# Altium footprint library Aeroval.PcbLib: 39 footprints (part 3 of 3)
Each footprint in its own frame and in the unit in brackets; x right, y up, seen from the top. Pads: shape width x height; smd on the part's side, far side on the other; paste and mask are expansions set on the pad; w line width, h text height; cw(c..) or ccw(c..) is an arc to the next point about the centre after c.
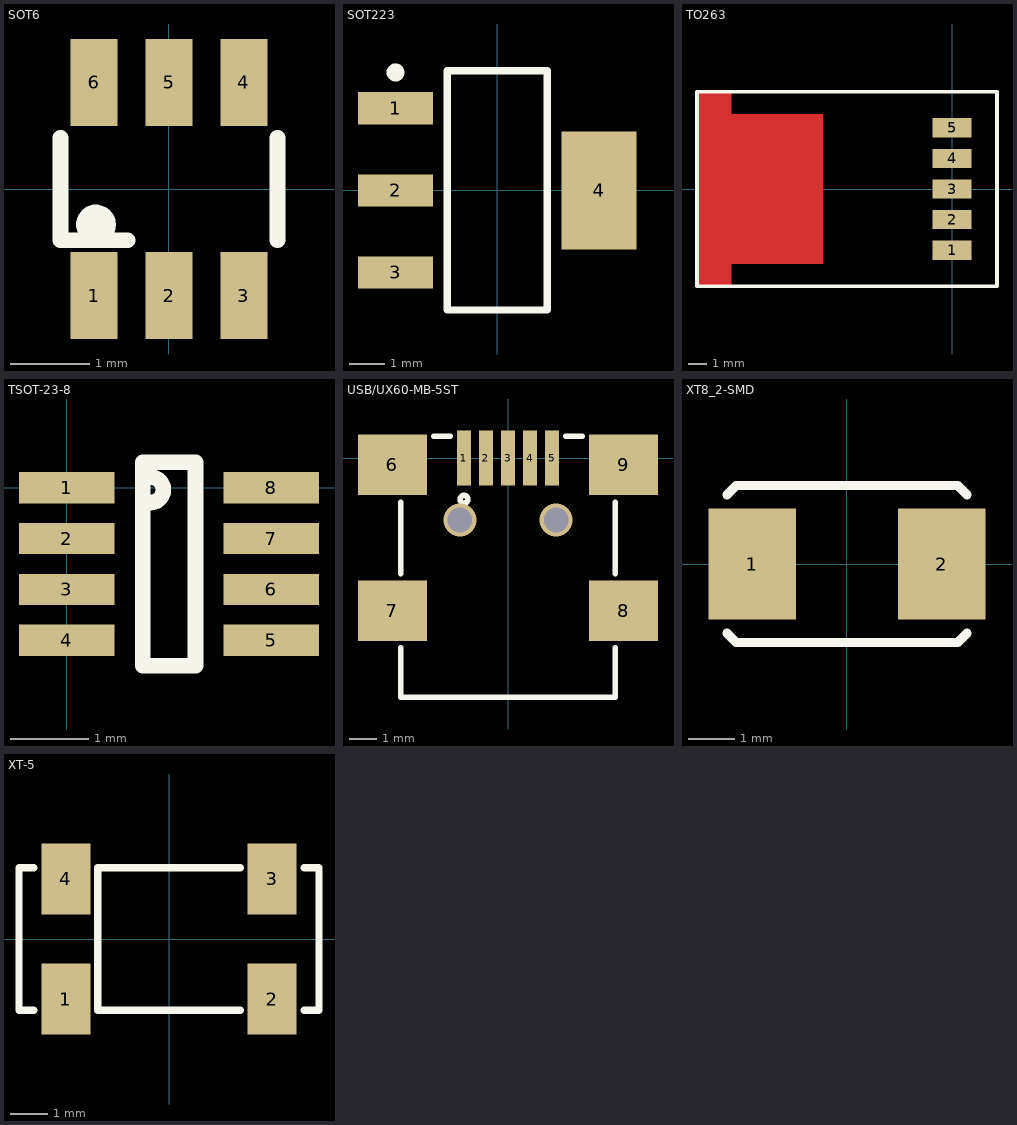
[diagram p2: the footprints below, top view; thin cyan lines are the x and y axes]

## SOT6 [mm]
pads (6):
  rect 0.6x1.1 smd: 1(-0.95,-1.35) 2(0,-1.35) 3(0.95,-1.35) 4(0.95,1.35) 5(0,1.35) 6(-0.95,1.35)
Top Overlay:
  circle w0.254: c-0.925,-0.45 r0.125
  lines w0.2: -1.375,0.65 -1.375,-0.65 -0.525,-0.65 ; 1.375,-0.65 1.375,0.65

## SOT223 [mm] "SOT223, 4-Leads, Body 6.7x7.3mm (max), Pitch 2.30mm, IPC High Density"
height 1.8
pads (4):
  rect 2.1x0.9 smd: 1(-2.85,2.3) 2(-2.85,0) 3(-2.85,-2.3)
  rect 2.1x3.3 smd: 4(2.85,0)
Top Overlay:
  circle w0.25: c-2.85,3.3 r0.125
  lines w0.2: -1.4,-3.35 -1.4,3.35 1.4,3.35 1.4,-3.35 -1.4,-3.35

## TO263 [mm]
pads (5):
  rect 2.16x1.07 smd: 1(0,-3.4) 2(0,-1.7) 3(0,0) 4(0,1.7) 5(0,3.4)
Top Layer:
  rectangle: -14.17,-5.4 -12.26,5.4
  rectangle: -12.26,-4.165 -7.18,4.165
Top Overlay:
  lines w0.2: -14.17,-5.4 2.4,-5.4 2.5,-5.4 2.5,5.4 -14.17,5.4 -14.17,-5.4

## TSOT-23-8 [mm]
pads (8):
  rect 1.22x0.4 smd: 1(0,0) 2(0,-0.65) 3(0,-1.3) 4(0,-1.95) 5(2.62,-1.95) 6(2.62,-1.3) 7(2.62,-0.65) 8(2.62,0)
Top Overlay:
  lines w0.2: 1.075,-0.188 ccw(c1.075,-0.025) 1.075,0.137 ; 1.148,0.325 1.65,0.325 1.65,-2.275 0.975,-2.275 0.975,0.325 1.472,0.325

## USB/UX60-MB-5ST [mm] "Connector; MINI USB, Type B, SM; 5 Position"
height 3.95
pads (9):
  rect 0.5x2 smd paste-0.2: 1(-1.6,0) 2(-0.8,0) 3(0,0) 4(0.8,0) 5(1.6,0)
  rect 2.5x2.2 smd paste-0.2: 6(-4.2,-0.25) 7(-4.2,-5.55) 8(4.2,-5.55) 9(4.2,-0.25)
via -1.75,-2.25 diameter 1.2 hole 0.9
via 1.75,-2.25 diameter 1.2 hole 0.9
Top Overlay:
  circle w0.2: c-1.6,-1.5 r0.141
  lines w0.2: -3.9,-6.9 -3.9,-8.7 3.9,-8.7 3.9,-6.9 ; -3.9,-4.2 -3.9,-1.6 ; -2.7,0.8 -2.1,0.8 ; 2.1,0.8 2.7,0.8 ; 3.9,-4.2 3.9,-1.6

## XT8_2-SMD [mm] "Quartz 5.00mm x 3.20mm SMD"
height 1.4
pads (2):
  rect 1.9x2.4 smd: 1(-2.05,0) 2(2.05,0)
Top Overlay:
  lines w0.2: -2.6,-1.5 -2.4,-1.7 2.4,-1.7 2.6,-1.5 ; -2.6,1.5 -2.4,1.7 2.4,1.7 2.6,1.5

## XT-5 [mm] "Quartz 17X 8x3.8mm"
height 2.5
pads (4):
  rect 1.3x1.9 smd: 1(-2.75,-1.6) 2(2.75,-1.6) 3(2.75,1.6) 4(-2.75,1.6)
Top Overlay:
  lines w0.2: -3.6,-1.9 -4,-1.9 -4,1.9 -3.6,1.9 ; 1.9,-1.9 -1.9,-1.9 -1.9,-0.95 -1.9,0.95 -1.9,1.9 1.9,1.9 ; 3.6,-1.9 4,-1.9 4,1.9 3.6,1.9